# Altium schematic symbol library NRH2412T100MNGH.SchLib: 1 symbol
Pins are listed as number, name and electrical type; pins without a type are passive.

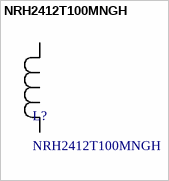
[diagram p0: symbol NRH2412T100MNGH]

## NRH2412T100MNGH
designator L?
Description; Manufacturer_Name: TAIYO YUDEN; Copyright: Copyright (C) 2025 Ultra Librarian. All rights reserved.; Manufacturer_Part_Number: NRH2412T100MNGH
pins: 1, 2